# EAGLE library part M.2 (library ds_con)
SM3ZS067U410AMR1000
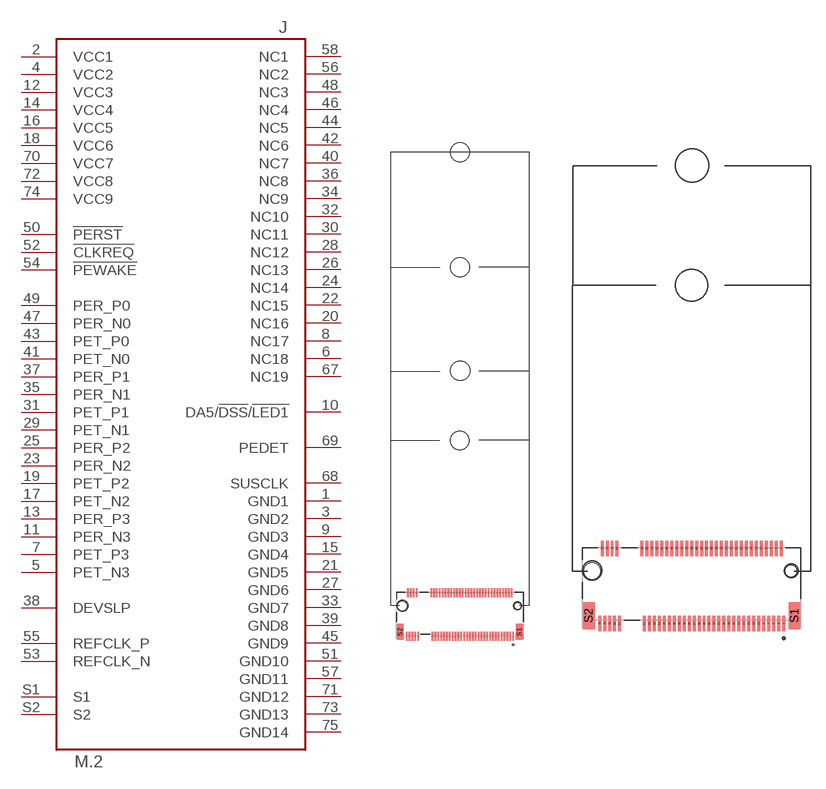
[diagram p45: symbol with the pads of PCIE_M.2; footprints PCIE_M.2, PCIE_M.2_SMALL]

Designator prefix J

## M.2 (DESCRIPTION: 4.2mm 67P Female M.2-M Key Surface Mount, Right Angle with locating pin SMD,P=0.5mm Hard Disk Connector (SAS/SATA/M.2) ROHS; LCSC_PART: C601195; MANUFACTURER: UMAX; MPN: 91302-42-067RDM; PCIE-M2: SM3ZS067U410AMR1000; ROHS: YES)  [PCIE_M.2]
1  GND1
2  VCC1
3  GND2
4  VCC2
5  PET_N3
6  NC18
7  PET_P3
8  NC17
9  GND3
10  DA5/!DSS!/!LED1
11  PER_N3
12  VCC3
13  PER_P3
14  VCC4
15  GND4
16  VCC5
17  PET_N2
18  VCC6
19  PET_P2
20  NC16
21  GND5
22  NC15
23  PER_N2
24  NC14
25  PER_P2
26  NC13
27  GND6
28  NC12
29  PET_N1
30  NC11
31  PET_P1
32  NC10
33  GND7
34  NC9
35  PER_N1
36  NC8
37  PER_P1
38  DEVSLP
39  GND8
40  NC7
41  PET_N0
42  NC6
43  PET_P0
44  NC5
45  GND9
46  NC4
47  PER_N0
48  NC3
49  PER_P0
50  !PERST
51  GND10
52  !CLKREQ
53  REFCLK_N
54  !PEWAKE
55  REFCLK_P
56  NC2
57  GND11
58  NC1
67  NC19
68  SUSCLK
69  PEDET
70  VCC7
71  GND12
72  VCC8
73  GND13
74  VCC9
75  GND14
S1  S1
S2  S2

## M.2.  [PCIE_M.2_SMALL]
Pads as for PCIE_M.2

## Footprint PCIE_M.2 (pad centres in mm)
smd 0.3 x 1.55: 1 9.25,-4.005; 2 9,3.545; 3 8.75,-4.005; 4 8.5,3.545; 5 8.25,-4.005; 6 8,3.545; 7 7.75,-4.005; 8 7.5,3.545; 9 7.25,-4.005; 10 7,3.545; 11 6.75,-4.005; 12 6.5,3.545; 13 6.25,-4.005; 14 6,3.545; 15 5.75,-4.005; 16 5.5,3.545; 17 5.25,-4.005; 18 5,3.545; 19 4.75,-4.005; 20 4.5,3.545; 21 4.25,-4.005; 22 4,3.545; 23 3.75,-4.005; 24 3.5,3.545; 25 3.25,-4.005; 26 3,3.545; 27 2.75,-4.005; 28 2.5,3.545; 29 2.25,-4.005; 30 2,3.545; 31 1.75,-4.005; 32 1.5,3.545; 33 1.25,-4.005; 34 1,3.545; 35 0.75,-4.005; 36 0.5,3.545; 37 0.25,-4.005; 38 0,3.545; 39 -0.25,-4.005; 40 -0.5,3.545; 41 -0.75,-4.005; 42 -1,3.545; 43 -1.25,-4.005; 44 -1.5,3.545; 45 -1.75,-4.005; 46 -2,3.545; 47 -2.25,-4.005; 48 -2.5,3.545; 49 -2.75,-4.005; 50 -3,3.545; 51 -3.25,-4.005; 52 -3.5,3.545; 53 -3.75,-4.005; 54 -4,3.545; 55 -4.25,-4.005; 56 -4.5,3.545; 57 -4.75,-4.005; 58 -5,3.545; 67 -7.25,-4.005; 68 -7.5,3.545; 69 -7.75,-4.005; 70 -8,3.545; 71 -8.25,-4.005; 72 -8.5,3.545; 73 -8.75,-4.005; 74 -9,3.545; 75 -9.25,-4.005
smd 1.2 x 2.75: S1 10.35,-3.23; S2 -10.35,-3.23
hole 1.15 at 10,1.27
hole 1.65 at -10,1.27

## Footprint PCIE_M.2_SMALL (pad centres in mm)
smd 0.3 x 1.55: 1 9.25,-26.865; 2 9,-19.315; 3 8.75,-26.865; 4 8.5,-19.315; 5 8.25,-26.865; 6 8,-19.315; 7 7.75,-26.865; 8 7.5,-19.315; 9 7.25,-26.865; 10 7,-19.315; 11 6.75,-26.865; 12 6.5,-19.315; 13 6.25,-26.865; 14 6,-19.315; 15 5.75,-26.865; 16 5.5,-19.315; 17 5.25,-26.865; 18 5,-19.315; 19 4.75,-26.865; 20 4.5,-19.315; 21 4.25,-26.865; 22 4,-19.315; 23 3.75,-26.865; 24 3.5,-19.315; 25 3.25,-26.865; 26 3,-19.315; 27 2.75,-26.865; 28 2.5,-19.315; 29 2.25,-26.865; 30 2,-19.315; 31 1.75,-26.865; 32 1.5,-19.315; 33 1.25,-26.865; 34 1,-19.315; 35 0.75,-26.865; 36 0.5,-19.315; 37 0.25,-26.865; 38 0,-19.315; 39 -0.25,-26.865; 40 -0.5,-19.315; 41 -0.75,-26.865; 42 -1,-19.315; 43 -1.25,-26.865; 44 -1.5,-19.315; 45 -1.75,-26.865; 46 -2,-19.315; 47 -2.25,-26.865; 48 -2.5,-19.315; 49 -2.75,-26.865; 50 -3,-19.315; 51 -3.25,-26.865; 52 -3.5,-19.315; 53 -3.75,-26.865; 54 -4,-19.315; 55 -4.25,-26.865; 56 -4.5,-19.315; 57 -4.75,-26.865; 58 -5,-19.315; 67 -7.25,-26.865; 68 -7.5,-19.315; 69 -7.75,-26.865; 70 -8,-19.315; 71 -8.25,-26.865; 72 -8.5,-19.315; 73 -8.75,-26.865; 74 -9,-19.315; 75 -9.25,-26.865
smd 1.2 x 2.75: S1 10.35,-26.09; S2 -10.35,-26.09
hole 1.15 at 10,-21.59
hole 1.65 at -10,-21.59